# Altium schematic symbol library LM317D2T-TR.Schlib: 1 symbol
Pins are listed as number, name and electrical type; pins without a type are passive.

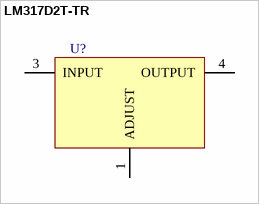
[diagram p0: symbol LM317D2T-TR]

## LM317D2T-TR
designator U?
1.5A 40V adjustable linear voltage regulators
pins: 1 ADJUST (power), 3 INPUT (power), 4 OUTPUT (power)